# EAGLE library part 503480-1800 (library MM24I)
CONN FFC FPC 18POS 0.50MM R/A
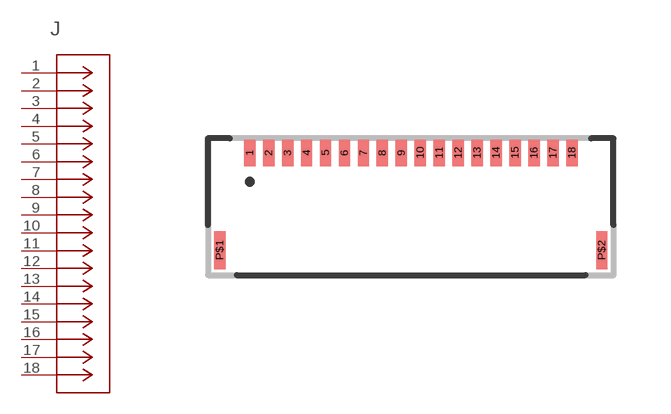
[diagram p6: symbol with the pads of 503480-1800; footprint 503480-1800]

Designator prefix J

## 503480-1800 (BUILT_BY: EMA_UL_Team; MANUFACTURER_PART_NUMBER: 503480-0600; VENDOR: Molex Connector Corporation)  [503480-1800]
1  1  pas
2  2  pas
3  3  pas
4  4  pas
5  5  pas
6  6  pas
7  7  pas
8  8  pas
9  9  pas
10  10  pas
11  11  pas
12  12  pas
13  13  pas
14  14  pas
15  15  pas
16  16  pas
17  17  pas
18  18  pas

## Footprint 503480-1800 (pad centres in mm)
smd 0.3 x 0.7: 1 0,0; 2 0.5,0; 3 1,0; 4 1.5,0; 5 2,0; 6 2.5,0; 7 3,0; 8 3.5,0; 9 4,0; 10 4.5,0; 11 5,0; 12 5.5,0; 13 6,0; 14 6.5,0; 15 7,0; 16 7.5,0; 17 8,0; 18 8.5,0
smd 0.3 x 1: P$1 -0.79,-2.565; P$2 9.287,-2.565